# Altium footprint library DE-151116.PcbLib: 8 footprints
Each footprint in its own frame and in the unit in brackets; x right, y up, seen from the top. Pads: shape width x height; smd on the part's side, far side on the other; paste and mask are expansions set on the pad; w line width, h text height; cw(c..) or ccw(c..) is an arc to the next point about the centre after c.
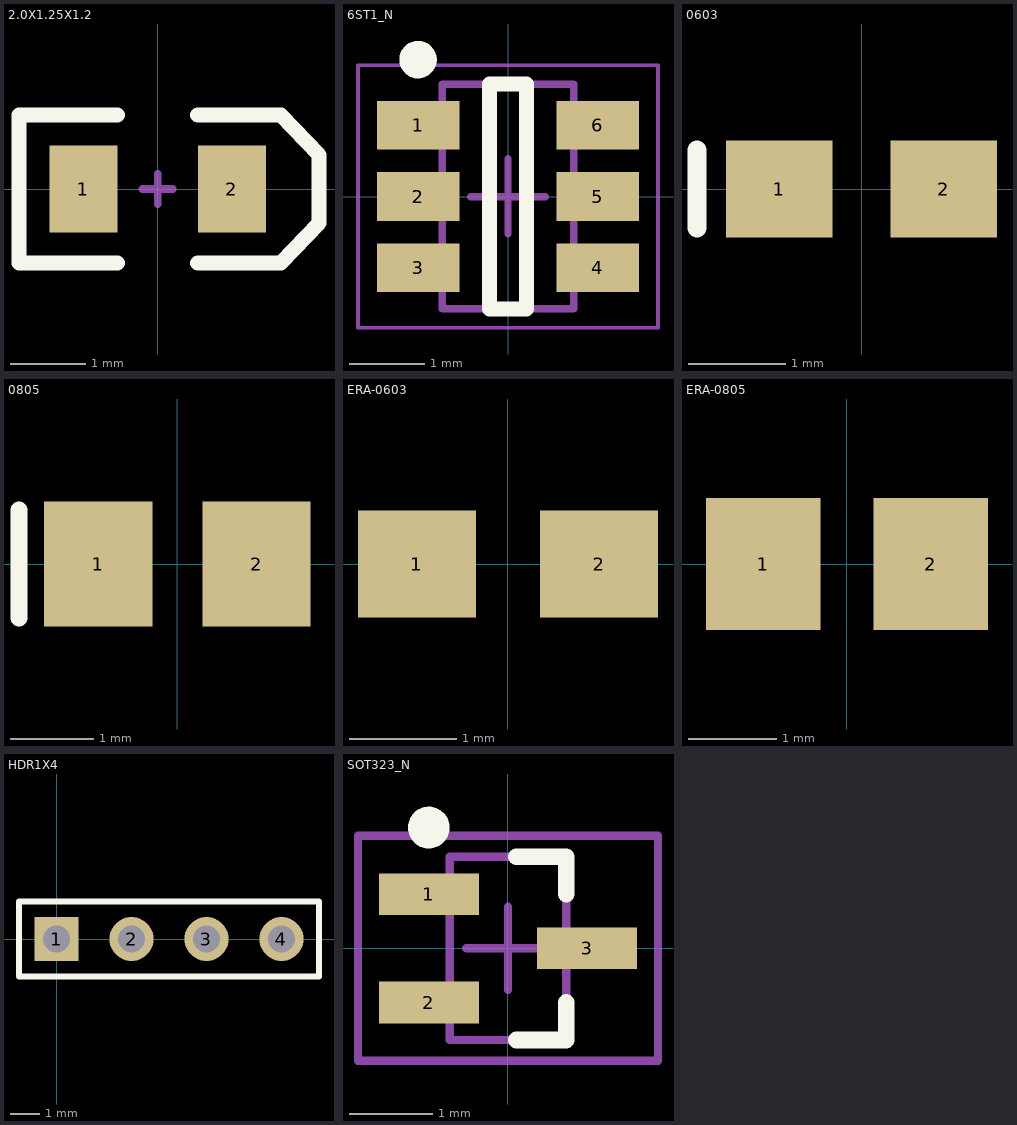
[diagram p0: the footprints below, top view; thin cyan lines are the x and y axes]

## 2.0X1.25X1.2 [mm] "SM LED; 2 Flat Leads"
pads (2):
  rect 0.9x1.15 smd: 1(-0.98,0) 2(0.98,0)
Top Overlay:
  lines w0.2: -0.53,-0.975 -1.83,-0.975 -1.83,0.975 -0.53,0.975 ; 0.53,-0.975 1.63,-0.975 2.13,-0.45 2.13,0.45 1.63,0.975 0.53,0.975
Mechanical 1:
  lines w0.1: -0.2,0 0.2,0 ; 0,-0.2 0,0.2

## 6ST1_N [mm] "SOT23, 6-Leads, Body 2.9x1.6mm, Pitch 0.95mm, Lead Span 2.8mm, IPC Medium Density"
height 1.45
pads (6):
  rect 1.1x0.65 smd: 1(-1.2,0.95) 2(-1.2,0) 3(-1.2,-0.95) 4(1.2,-0.95) 5(1.2,0) 6(1.2,0.95)
Top Overlay:
  circle w0.25: c-1.2,1.825 r0.125
  lines w0.2: -0.25,-1.5 -0.25,1.5 0.25,1.5 0.25,-1.5 -0.25,-1.5
Mechanical 13:
  lines w0.1: -0.875,-1.5 0.875,-1.5 0.875,1.5 -0.875,1.5 -0.875,-1.5
Mechanical 15:
  lines w0.05: -2,-1.75 2,-1.75 2,1.75 -2,1.75 -2,-1.75
  lines w0.1: -0.5,0 0.5,0 ; 0,-0.5 0,0.5
3D body: height 1.45, standoff 0, extent -0.875,-1.5 0.875,1.5

## 0603 [mm] "Chip Capacitor; Body 1.6 x 0.8 mm (LxW typ)"
height 0.87
pads (2):
  rect 1.1x1 smd: 1(-0.85,0) 2(0.85,0)
Top Overlay:
  lines w0.2: -1.7,-0.4 -1.7,0.4

## 0805 [mm] "Chip Capacitor; Body 2.0 x 1.2 mm (LxW typ)"
height 1.3
pads (2):
  rect 1.3x1.5 smd: 1(-0.95,0) 2(0.95,0)
Top Overlay:
  lines w0.2: -1.9,-0.65 -1.9,0.65

## ERA-0603 [mm] "Chip Resistor; Body 1.6 x 0.8 mm (LxW typ)"
height 0.55
pads (2):
  rect 1.1x1 smd: 1(-0.85,0) 2(0.85,0)

## ERA-0805 [mm] "Chip Resistor; Body 2 x 1.3 mm (LxW typ)"
height 0.6
pads (2):
  rect 1.3x1.5 smd: 1(-0.95,0) 2(0.95,0)

## HDR1X4 [mm] "Connector; Header; 4 Position"
pads (4):
  rect 1.5x1.5 hole 0.9: 1(0,0)
  round 1.5 hole 0.9: 2(2.54,0) 3(5.08,0) 4(7.62,0)
Top Overlay:
  lines w0.2: -1.27,-1.27 8.89,-1.27 8.89,1.27 -1.27,1.27 -1.27,-1.27

## SOT323_N [mm] "SOT323, 3-Leads, Body 2.0x1.3mm, Pitch 0.65mm, Lead Span 2.1mm, IPC Medium Density"
height 1.1
pads (3):
  rect 1.2x0.5 smd: 1(-0.95,0.65) 2(-0.95,-0.65) 3(0.95,0)
Top Overlay:
  circle w0.25: c-0.95,1.45 r0.125
  lines w0.2: 0.1,-1.1 0.7,-1.1 0.7,-0.65 ; 0.1,1.1 0.7,1.1 0.7,0.65
Mechanical 13:
  lines w0.1: -0.7,-1.1 0.7,-1.1 0.7,1.1 -0.7,1.1 -0.7,-1.1
Mechanical 15:
  lines w0.1: -0.5,0 0.5,0 ; 0,-0.5 0,0.5 ; -1.8,-1.35 1.8,-1.35 1.8,1.35 -1.8,1.35 -1.8,-1.35
3D body: height 1.1, standoff 0, extent -0.7,-1.1 0.7,1.1